# Altium schematic symbol library MCU.SchLib: 1 symbol
Pins are listed as number, name and electrical type; pins without a type are passive.

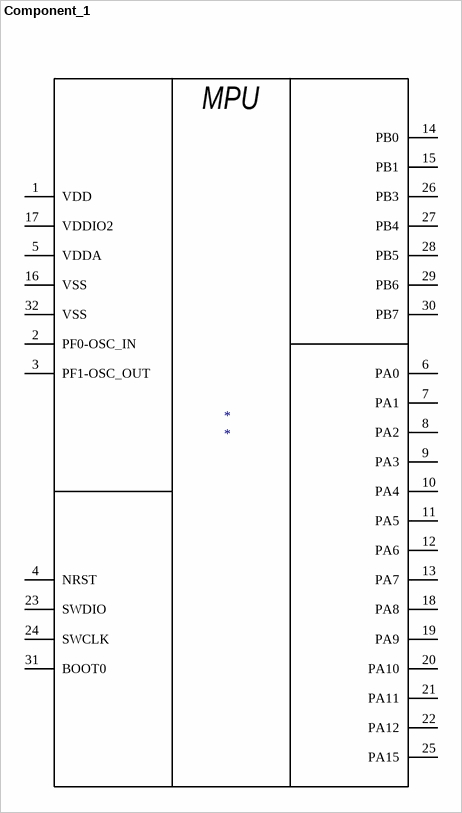
[diagram p0: symbol Component_1]

## Component_1
designator *
footprint LQFP-32
pins: 1 VDD (power), 2 PF0-OSC_IN (power), 3 PF1-OSC_OUT (power), 4 NRST (power), 5 VDDA (power), 6 PA0 (power), 7 PA1 (power), 8 PA2 (power), 9 PA3 (power), 10 PA4 (power), 11 PA5 (power), 12 PA6 (power), 13 PA7 (power), 14 PB0 (power), 15 PB1 (power), 16 VSS (power), 17 VDDIO2 (power), 18 PA8 (power), 19 PA9 (power), 20 PA10 (power), 21 PA11 (power), 22 PA12 (power), 23 SWDIO (power), 24 SWCLK (power), 25 PA15 (power), 26 PB3 (power), 27 PB4 (power), 28 PB5 (power), 29 PB6 (power), 30 PB7 (power), 31 BOOT0 (power), 32 VSS (power)
text: MPU